# Altium schematic symbol library VCNT2020.SchLib: 1 symbol
Pins are listed as number, name and electrical type; pins without a type are passive.

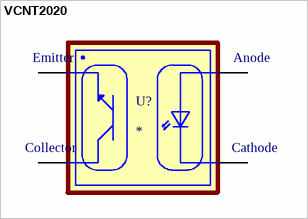
[diagram p0: symbol VCNT2020]

## VCNT2020
designator U?
Reflective Optical Sensor 0.02 (0.5mm) 4-SMD Module; MF: Vishay; MP: VCNT2020; SnapEDA_Link: https://www.snapeda.com/parts/VCNT2020/Vishay+Semiconductor+Opto+Division/view-part/?ref=snap; Package: SMD-4 Vishay; Value: *; Check_prices: https://www.snapeda.com/parts/VCNT2020/Vishay+Semiconductor+Opto+Division/view-part/?ref=eda
footprint XDCR_VCNT2020
pins: 1 EMITTER, 2 COLLECTOR, 3 ANODE, 4 CATHODE
text: Emitter; Anode; Collector; Cathode